# Altium footprint library LM2937IMP-12.PcbLib: 1 footprints
Each footprint in its own frame and in the unit in brackets; x right, y up, seen from the top. Pads: shape width x height; smd on the part's side, far side on the other; paste and mask are expansions set on the pad; w line width, h text height; cw(c..) or ccw(c..) is an arc to the next point about the centre after c.
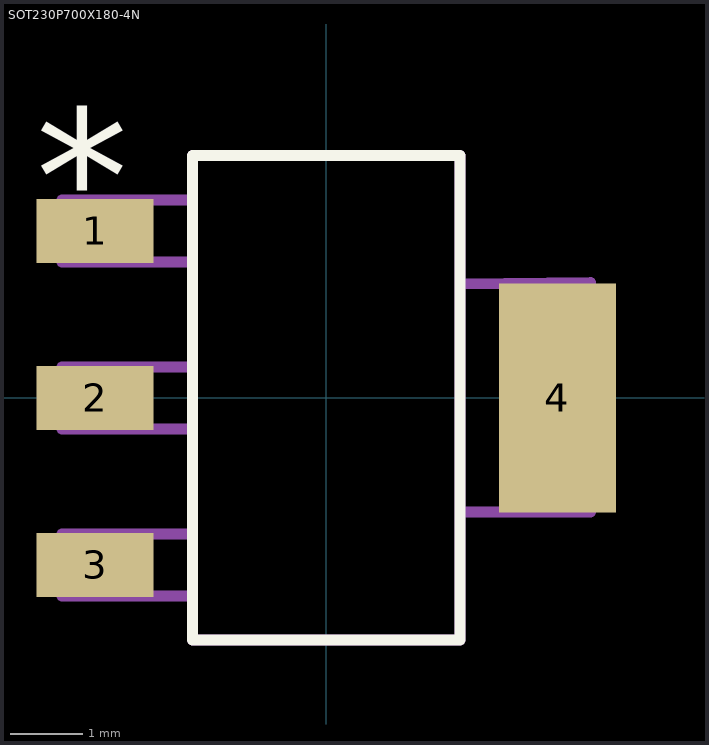
[diagram p0: the footprint, top view; thin cyan lines are the x and y axes]

## SOT230P700X180-4N [mil]
pads (4):
  rect 64x35 smd: 1(-126,91) 2(-126,0) 3(-126,-91)
  rect 64x125 smd: 4(126,0)
Top Overlay:
  lines w6: -73,-132 -73,132 73,132 73,-132 -73,-132
  text "*" at -158.25,84.31 h73.82
Mechanical 1:
  lines w6: -144,-108 -73,-108 -73,-74 -144,-74 -144,-108 ; -144,-17 -73,-17 -73,17 -144,17 -144,-17 ; -144,74 -73,74 -73,108 -144,108 -144,74 ; -73,-132 -73,132 73,132 73,-132 -73,-132 ; 73,-62 144,-62 144,63 73,62 73,-62
  text "*" at -158.16,84.25 h73.82